# Altium footprint library HRS_DF58_2P.PcbLib: 1 footprints
Each footprint in its own frame and in the unit in brackets; x right, y up, seen from the top. Pads: shape width x height; smd on the part's side, far side on the other; paste and mask are expansions set on the pad; w line width, h text height; cw(c..) or ccw(c..) is an arc to the next point about the centre after c.
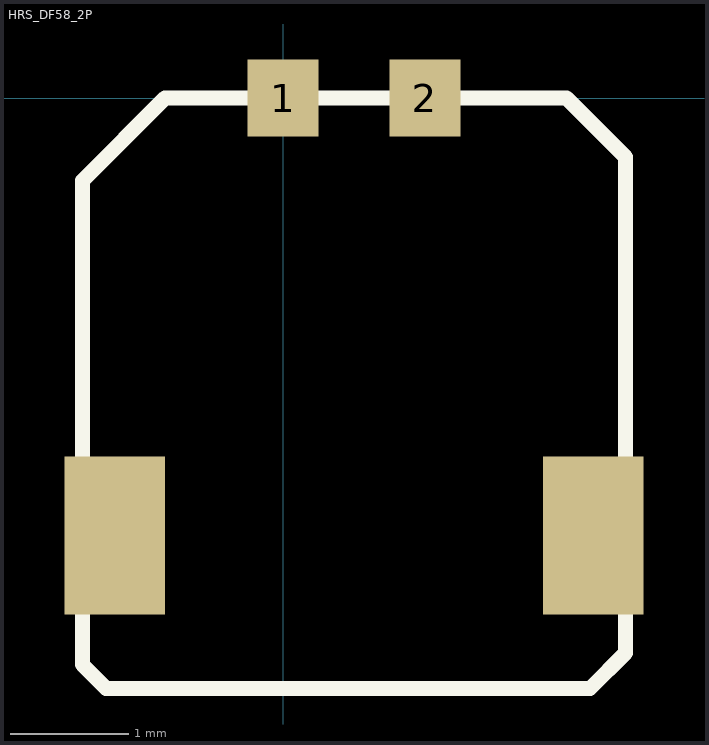
[diagram p0: the footprint, top view; thin cyan lines are the x and y axes]

## HRS_DF58_2P [mm]
height 0.95
pads (4):
  rect 0.6x0.65 smd: 1(0,0) 2(1.2,0)
  rect 0.85x1.34 smd: ""(-1.425,-3.705) ""(2.625,-3.705)
Top Overlay:
  lines w0.127: -1.7,-4.8 -1.7,-0.7 -1,0 2.4,0 2.9,-0.5 2.9,-4.7 2.6,-5 -1.5,-5 -1.7,-4.8